# Altium schematic symbol library Schlib1.SchLib: 4 symbols
Pins are listed as number, name and electrical type; pins without a type are passive.

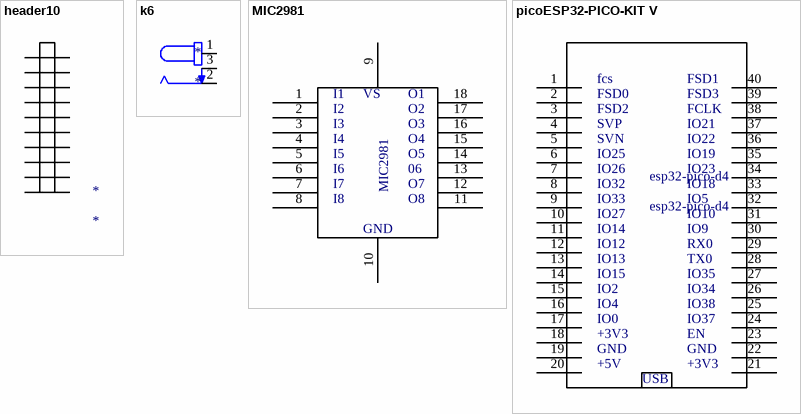
[diagram p0: symbols header10 to picoESP32-PICO-KIT V]

## header10
designator *
pins: 1, 2, 3, 4, 5, 6, 7, 8, 9, 10

## k6
designator *
pins: 1, 2, 3

## MIC2981
designator ?
pins: 1, 2, 3, 4, 5, 6, 7, 8, 9, 10, 11, 12, 13, 14, 15, 16, 17, 18
text: I1; VS; O1; I2; O2; I3; O3; I4; O4; I5; O5; I6; 06; I7; O7; I8; O8; GND

## picoESP32-PICO-KIT V
designator esp32-pico-d4, comment esp32-pico-d4
pins: 1, 2, 3, 4, 5, 6, 7, 8, 9, 10, 11, 12, 13, 14, 15, 16, 17, 18, 19, 20, 21, 22, 23, 24, 25, 26, 27, 28, 29, 30, 31, 32, 33, 34, 35, 36, 37, 38, 39, 40
text: fcs; FSD1; FSD0; FSD3; FSD2; FCLK; SVP; IO21; SVN; IO22; IO25; IO19; IO26; IO23; IO32; IO18; IO33; IO5; IO27; IO10; IO14; IO9; IO12; RX0; IO13; TX0; IO15; IO35; IO2; IO34; IO4; IO38; IO0; IO37; +3V3; EN; GND; +5V; USB